# Altium footprint library TRANS_ETD_29_2.PcbLib: 1 footprints
Each footprint in its own frame and in the unit in brackets; x right, y up, seen from the top. Pads: shape width x height; smd on the part's side, far side on the other; paste and mask are expansions set on the pad; w line width, h text height; cw(c..) or ccw(c..) is an arc to the next point about the centre after c.
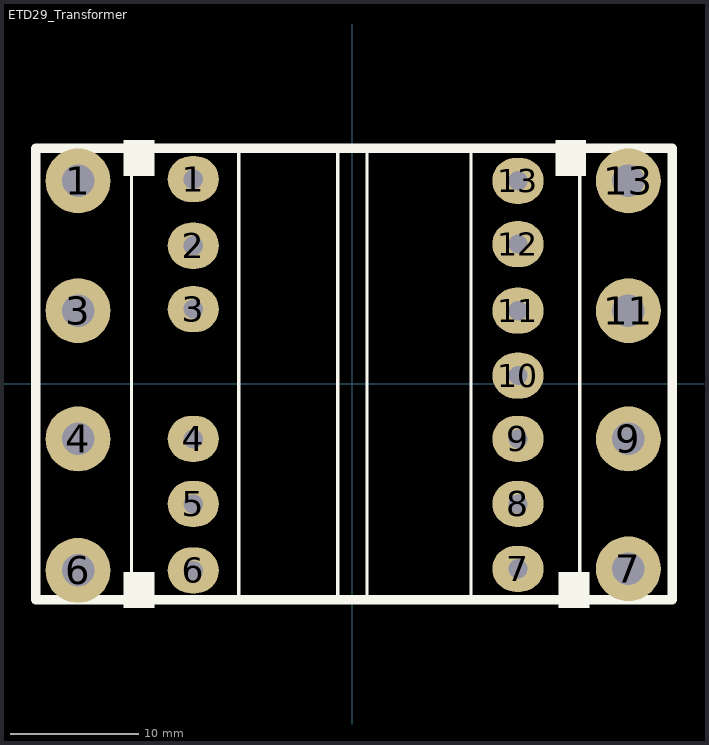
[diagram p0: the footprint, top view; thin cyan lines are the x and y axes]

## ETD29_Transformer [mm]
pads (21):
  round 5.08 hole 2.54: 1(-21.463,15.875) 3(-21.463,5.715) 4(-21.463,-4.318) 6(-21.463,-14.605) 7(21.59,-14.478) 9(21.59,-4.318) 11(21.59,5.715) 13(21.59,15.875)
  oval 4x3.6 hole 1.5: 1(-12.446,16.002) 2(-12.446,10.795) 3(-12.446,5.842) 4(-12.446,-4.318) 5(-12.446,-9.398) 6(-12.446,-14.605) 7(12.954,-14.478) 8(12.954,-9.398) 9(12.954,-4.318) 10(12.954,0.635) 11(12.954,5.715) 12(12.954,10.922) 13(12.954,15.875)
Top Layer:
  lines w0.254: -12.446,-14.605 -12.319,-14.478
Top Overlay:
  rectangle: -17.907,-17.526 -15.494,-14.732
  rectangle: -17.907,16.256 -15.494,19.05
  rectangle: 15.875,16.256 18.288,19.05
  rectangle: 16.129,-17.526 18.542,-14.732
  lines w0.254: -17.272,-16.891 -17.272,18.415 -8.89,18.415 -8.89,-16.891 -17.272,-16.891 ; -1.143,-16.764 1.143,-16.764 1.143,18.415 -1.143,18.415 -1.143,-16.764 ; 9.271,-16.891 9.271,18.288 17.78,18.288 17.78,-16.891 9.271,-16.891
  lines w0.762: -24.765,-16.891 -24.765,18.415 25.019,18.415 25.019,-16.891 -24.765,-16.891
Bottom Overlay:
  lines w0.254: -1.143,-16.51 1.143,-16.51 1.143,18.669 -1.143,18.669 -1.143,-16.51
  lines w0.762: -24.765,-16.764 -24.765,18.542 24.892,18.542 24.892,-16.764 -24.765,-16.764
3D body "User Library-ETD29.STEP": height 24.81, standoff -3.3, extent -17.272,-16.912 17.728,18.288